# Altium schematic symbol library MCU.SchLib: 15 symbols
Pins are listed as number, name and electrical type; pins without a type are passive.

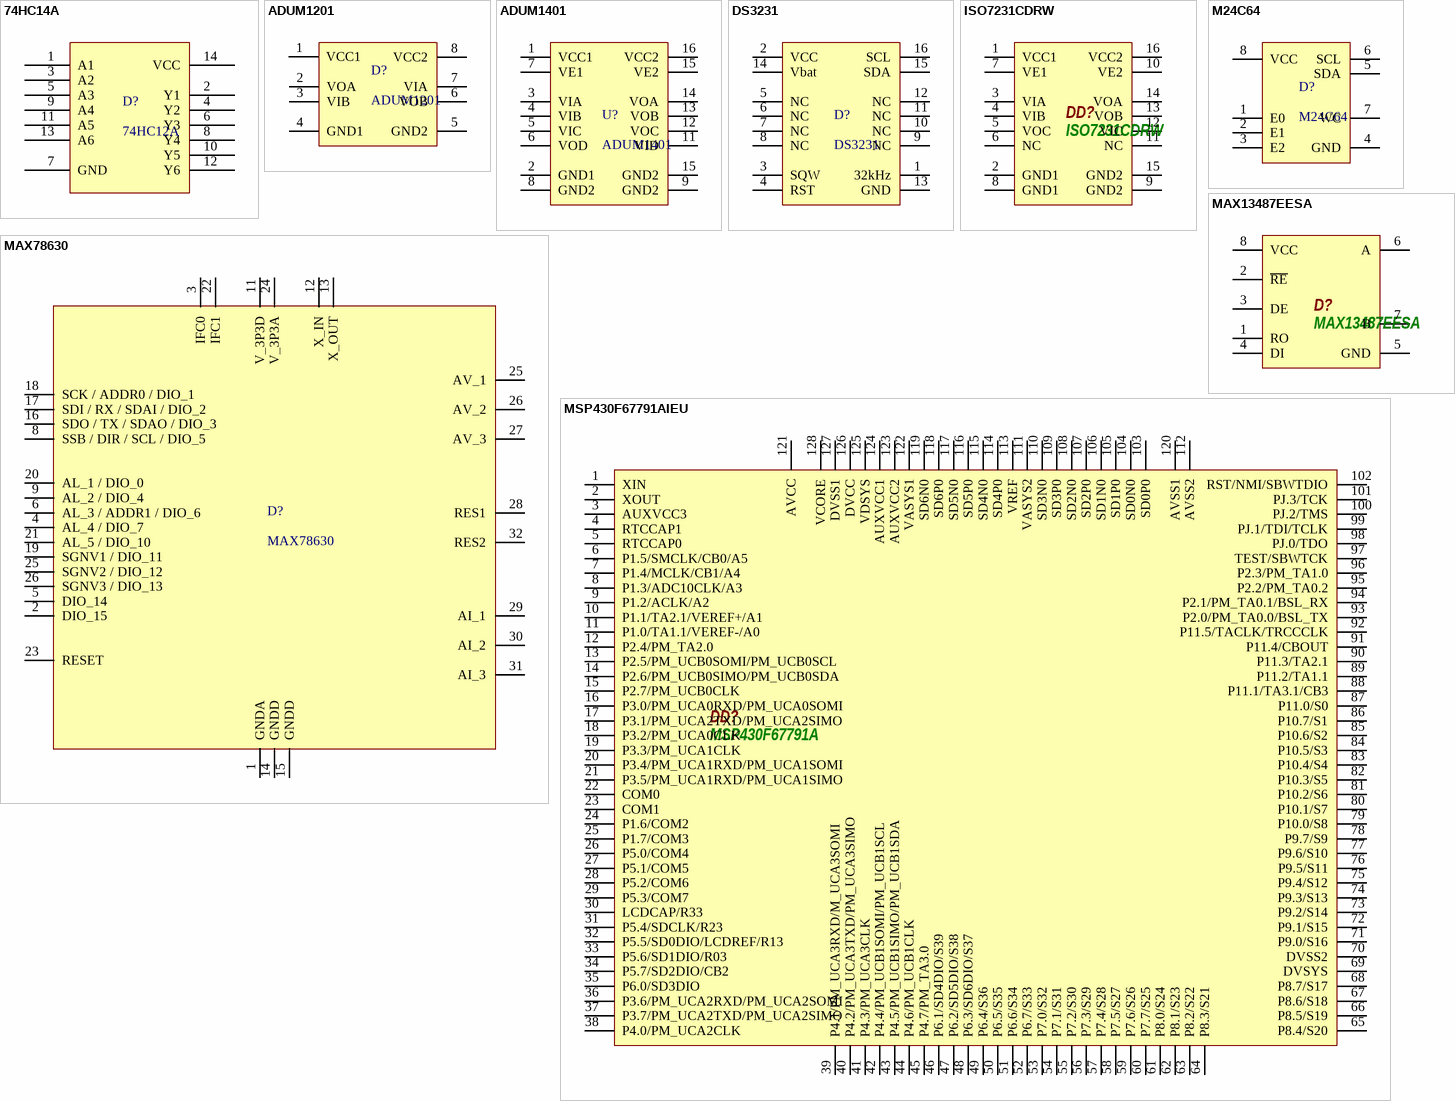
[diagram p0: symbols 74HC14A to MSP430F67791AIEU]

## 74HC14A
designator D?, comment 74HC12A
footprint TSSOP-14 (TSSOP, 14-Leads)
pins: 1 A1 (power), 2 Y1, 3 A2 (power), 4 Y2, 5 A3, 6 Y3, 7 GND, 8 Y4, 9 A4, 10 Y5, 11 A5, 12 Y6, 13 A6, 14 VCC

## ADUM1201
designator D?
ValueManufacturerPartNumber: ADUM1201ARWZ; ValueManufacturer: Analog Devices; ValueType: Микросхема
footprint SOIC-8 / 150mm
pins: 1 VCC1, 2 VOA, 3 VIB, 4 GND1, 5 GND2, 6 VOB, 7 VIA, 8 VCC2

## ADUM1401
designator U?
ValueManufacturerPartNumber: ADUM1401ARWZ; ValueManufacturer: Analog Devices; ValueType: Микросхема
footprint SOIC-16W 3D (SOIC, 16-Leads, Body 10,30x7,50mm, Pitch 1,27mm, IPC Medium Density)
pins: 1 VCC1 (power), 2 GND1, 3 VIA, 4 VIB, 5 VIC, 6 VOD, 7 VE1 (power), 8 GND2, 9 GND2, 11 VID, 12 VOC, 13 VOB, 14 VOA, 15 GND2, 15 VE2, 16 VCC2

## DS3231
designator D?
ValueManufacturer: Dallas Semiconductor; ValueType: Микросхема; ValueManufacturerPartNumber: DS3231
footprint SOIC-16W 3D (SOIC, 16-Leads, Body 10,30x7,50mm, Pitch 1,27mm, IPC Medium Density)
pins: 1 32kHz, 2 VCC (power), 3 SQW, 4 RST, 5 NC, 6 NC, 7 NC, 8 NC, 9 NC, 10 NC, 11 NC, 12 NC, 13 GND, 14 Vbat (power), 15 SDA, 16 SCL

## ISO7231CDRW
designator DD?
ValueManufacturer: Texas Instruments; ValueType: Микросхема; ValueManufacturerPartNumber: ISO7231CDRW
footprint SOIC-16W / 300mm
pins: 1 VCC1 (power), 2 GND1, 3 VIA, 4 VIB, 5 VOC, 6 NC, 7 VE1 (power), 8 GND1, 9 GND2, 10 VE2, 11 NC, 12 VIC, 13 VOB, 14 VOA, 15 GND2, 16 VCC2

## M24C64
designator D?
ValueManufacturerPartNumber: M24C64-RMN6TP; ValueManufacturer: STMicroelectronics; ValueType: Микросхема
footprint SOIC-8 / 150mm
pins: 1 E0, 2 E1, 3 E2, 4 GND, 5 SDA, 6 SCL, 7 WC, 8 VCC

## MAX13487EESA
designator D?
ValueManufacturer: Maxim Intagrated; ValueType: Микросхема; ValueManufacturerPartNumber: MAX13487EESA
pins: 1 RO, 2 ~{RE}, 3 DE, 4 DI, 5 GND, 6 A, 7 B, 8 VCC

## MAX78630
designator D?
ValueManufacturer: Maxim Integrated; ValueManufacturerPartNumber: MAX78630+PPM/D00; ValueType: Микросхема
footprint TQFN-32 (QFN, 32-Leads, Body 5,00x5,00mm, Pitch 0,50mm, Thermal Pad 3,38x3,38mm, IPC Medium Density)
pins: 1 GNDA, 2 DIO_15, 3 IFC0, 4 AL_4 / DIO_7, 5 DIO_14, 6 AL_3 / ADDR1 / DIO_6, 8 SSB / DIR / SCL / DIO_5, 9 AL_2 / DIO_4, 11 V_3P3D, 12 X_IN, 13 X_OUT, 14 GNDD, 15 GNDD, 16 SDO / TX / SDAO / DIO_3, 17 SDI / RX / SDAI / DIO_2, 18 SCK / ADDR0 / DIO_1, 19 SGNV1 / DIO_11, 20 AL_1 / DIO_0, 21 AL_5 / DIO_10, 22 IFC1, 23 RESET, 24 V_3P3A, 25 SGNV2 / DIO_12, 25 AV_1, 26 SGNV3 / DIO_13, 26 AV_2, 27 AV_3, 28 RES1, 29 AI_1, 30 AI_2, 31 AI_3, 32 RES2

## MSP430F67791AIEU
designator DD?, comment MSP430F67791A
ValueManufacturer: Texas Instruments; ValueManufacturerPartNumber: MSP430F67791AIPEUR; ValueType: Микросхема
footprint PQFP-128
pins: 1 XIN, 2 XOUT, 3 AUXVCC3, 4 RTCCAP1, 5 RTCCAP0, 6 P1.5/SMCLK/CB0/A5, 7 P1.4/MCLK/CB1/A4, 8 P1.3/ADC10CLK/A3, 9 P1.2/ACLK/A2, 10 P1.1/TA2.1/VEREF+/A1, 11 P1.0/TA1.1/VEREF-/A0, 12 P2.4/PM_TA2.0, 13 P2.5/PM_UCB0SOMI/PM_UCB0SCL, 14 P2.6/PM_UCB0SIMO/PM_UCB0SDA, 15 P2.7/PM_UCB0CLK, 16 P3.0/PM_UCA0RXD/PM_UCA0SOMI, 17 P3.1/PM_UCA2TXD/PM_UCA2SIMO, 18 P3.2/PM_UCA0CLK, 19 P3.3/PM_UCA1CLK, 20 P3.4/PM_UCA1RXD/PM_UCA1SOMI, 21 P3.5/PM_UCA1RXD/PM_UCA1SIMO, 22 COM0, 23 COM1, 24 P1.6/COM2, 25 P1.7/COM3, 26 P5.0/COM4, 27 P5.1/COM5, 28 P5.2/COM6, 29 P5.3/COM7, 30 LCDCAP/R33, 31 P5.4/SDCLK/R23, 32 P5.5/SD0DIO/LCDREF/R13, 33 P5.6/SD1DIO/R03, 34 P5.7/SD2DIO/CB2, 35 P6.0/SD3DIO, 36 P3.6/PM_UCA2RXD/PM_UCA2SOMI, 37 P3.7/PM_UCA2TXD/PM_UCA2SIMO, 38 P4.0/PM_UCA2CLK, 39 P4.1/PM_UCA3RXD/M_UCA3SOMI, 40 P4.2/PM_UCA3TXD/PM_UCA3SIMO, 41 P4.3/PM_UCA3CLK, 42 P4.4/PM_UCB1SOMI/PM_UCB1SCL, 43 P4.5/PM_UCB1SIMO/PM_UCB1SDA, 44 P4.6/PM_UCB1CLK, 45 P4.7/PM_TA3.0, 46 P6.1/SD4DIO/S39, 47 P6.2/SD5DIO/S38, 48 P6.3/SD6DIO/S37, 49 P6.4/S36, 50 P6.5/S35, 51 P6.6/S34, 52 P6.7/S33, 53 P7.0/S32, 54 P7.1/S31, 55 P7.2/S30, 56 P7.3/S29, 57 P7.4/S28, 58 P7.5/S27, 59 P7.6/S26, 60 P7.7/S25, 61 P8.0/S24, 62 P8.1/S23, 63 P8.2/S22, 64 P8.3/S21, 65 P8.4/S20, 66 P8.5/S19, 67 P8.6/S18, 68 P8.7/S17, 69 DVSYS, 70 DVSS2, 71 P9.0/S16, 72 P9.1/S15, 73 P9.2/S14, 74 P9.3/S13, 75 P9.4/S12, 76 P9.5/S11, 77 P9.6/S10, 78 P9.7/S9, 79 P10.0/S8, 80 P10.1/S7, 81 P10.2/S6, 82 P10.3/S5, 83 P10.4/S4, 84 P10.5/S3, 85 P10.6/S2, 86 P10.7/S1, 87 P11.0/S0, 88 P11.1/TA3.1/CB3, 89 P11.2/TA1.1, 90 P11.3/TA2.1, 91 P11.4/CBOUT, 92 P11.5/TACLK/TRCCCLK, 93 P2.0/PM_TA0.0/BSL_TX, 94 P2.1/PM_TA0.1/BSL_RX, 95 P2.2/PM_TA0.2, 96 P2.3/PM_TA1.0, 97 TEST/SBWTCK, 98 PJ.0/TDO, 99 PJ.1/TDI/TCLK, 100 PJ.2/TMS, 101 PJ.3/TCK, 102 RST/NMI/SBWTDIO, 103 SD0P0, 104 SD0N0, 105 SD1P0, 106 SD1N0, 107 SD2P0, 108 SD2N0, 109 SD3P0, 110 SD3N0, 111 VASYS2, 112 AVSS2, 113 VREF, 114 SD4P0, 115 SD4N0, 116 SD5P0, 117 SD5N0, 118 SD6P0, 119 SD6N0, 120 AVSS1, 121 AVCC, 122 VASYS1, 123 AUXVCC2, 124 AUXVCC1, 125 VDSYS, 126 DVCC, 127 DVSS1, 128 VCORE

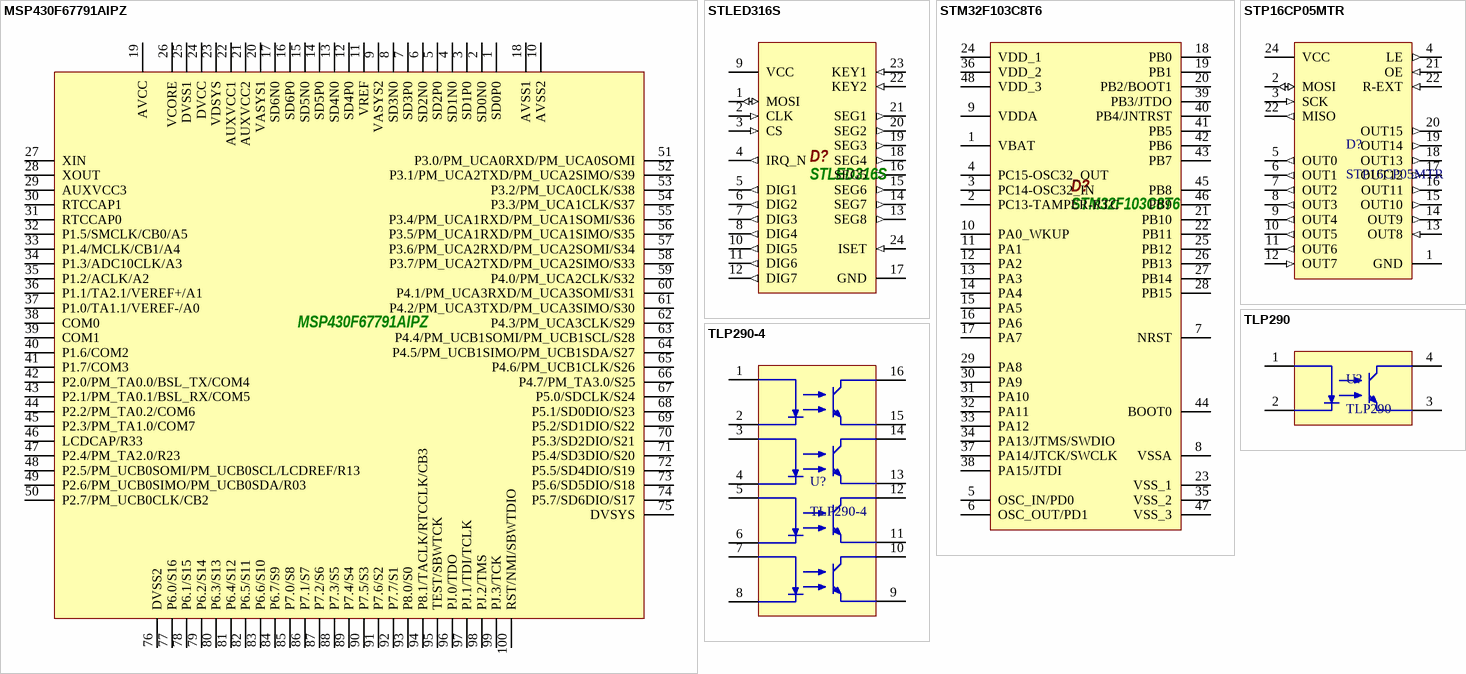
[diagram p1: symbols MSP430F67791AIPZ to TLP290-4]

## MSP430F67791AIPZ
designator ?
ValueManufacturer: Texas Instruments; ValueType: Микросхема; ValueManufacturerPartNumber: MSP430F67791AIPZ
footprint LQFP-100
pins: 1 SD0P0, 2 SD0N0, 3 SD1P0, 4 SD1N0, 5 SD2P0, 6 SD2N0, 7 SD3P0, 8 SD3N0, 9 VASYS2, 10 AVSS2, 11 VREF, 12 SD4P0, 13 SD4N0, 14 SD5P0, 15 SD5N0, 16 SD6P0, 17 SD6N0, 18 AVSS1, 19 AVCC, 20 VASYS1, 21 AUXVCC2, 22 AUXVCC1, 23 VDSYS, 24 DVCC, 25 DVSS1, 26 VCORE, 27 XIN, 28 XOUT, 29 AUXVCC3, 30 RTCCAP1, 31 RTCCAP0, 32 P1.5/SMCLK/CB0/A5, 33 P1.4/MCLK/CB1/A4, 34 P1.3/ADC10CLK/A3, 35 P1.2/ACLK/A2, 36 P1.1/TA2.1/VEREF+/A1, 37 P1.0/TA1.1/VEREF-/A0, 38 COM0, 39 COM1, 40 P1.6/COM2, 41 P1.7/COM3, 42 P2.0/PM_TA0.0/BSL_TX/COM4, 43 P2.1/PM_TA0.1/BSL_RX/COM5, 44 P2.2/PM_TA0.2/COM6, 45 P2.3/PM_TA1.0/COM7, 46 LCDCAP/R33, 47 P2.4/PM_TA2.0/R23, 48 P2.5/PM_UCB0SOMI/PM_UCB0SCL/LCDREF/R13, 49 P2.6/PM_UCB0SIMO/PM_UCB0SDA/R03, 50 P2.7/PM_UCB0CLK/CB2, 51 P3.0/PM_UCA0RXD/PM_UCA0SOMI, 52 P3.1/PM_UCA2TXD/PM_UCA2SIMO/S39, 53 P3.2/PM_UCA0CLK/S38, 54 P3.3/PM_UCA1CLK/S37, 55 P3.4/PM_UCA1RXD/PM_UCA1SOMI/S36, 56 P3.5/PM_UCA1RXD/PM_UCA1SIMO/S35, 57 P3.6/PM_UCA2RXD/PM_UCA2SOMI/S34, 58 P3.7/PM_UCA2TXD/PM_UCA2SIMO/S33, 59 P4.0/PM_UCA2CLK/S32, 60 P4.1/PM_UCA3RXD/M_UCA3SOMI/S31, 61 P4.2/PM_UCA3TXD/PM_UCA3SIMO/S30, 62 P4.3/PM_UCA3CLK/S29, 63 P4.4/PM_UCB1SOMI/PM_UCB1SCL/S28, 64 P4.5/PM_UCB1SIMO/PM_UCB1SDA/S27, 65 P4.6/PM_UCB1CLK/S26, 66 P4.7/PM_TA3.0/S25, 67 P5.0/SDCLK/S24, 68 P5.1/SD0DIO/S23, 69 P5.2/SD1DIO/S22, 70 P5.3/SD2DIO/S21, 71 P5.4/SD3DIO/S20, 72 P5.5/SD4DIO/S19, 73 P5.6/SD5DIO/S18, 74 P5.7/SD6DIO/S17, 75 DVSYS, 76 DVSS2, 77 P6.0/S16, 78 P6.1/S15, 79 P6.2/S14, 80 P6.3/S13, 81 P6.4/S12, 82 P6.5/S11, 83 P6.6/S10, 84 P6.7/S9, 85 P7.0/S8, 86 P7.1/S7, 87 P7.2/S6, 88 P7.3/S5, 89 P7.4/S4, 90 P7.5/S3, 91 P7.6/S2, 92 P7.7/S1, 93 P8.0/S0, 94 P8.1/TACLK/RTCCLK/CB3, 95 TEST/SBWTCK, 96 PJ.0/TDO, 97 PJ.1/TDI/TCLK, 98 PJ.2/TMS, 99 PJ.3/TCK, 100 RST/NMI/SBWTDIO

## STLED316S
designator D?
ValueManufacturer: STMicroelectronics; ValueType: Микросхема; ValueManufacturerPartNumber: STLED316S
footprint SOIC-24W / 300m
pins: 1 MOSI (io), 2 CLK (in), 3 CS (in), 4 IRQ_N (out), 5 DIG1 (out), 6 DIG2 (out), 7 DIG3 (out), 8 DIG4 (out), 9 VCC (power), 10 DIG5 (out), 11 DIG6 (out), 12 DIG7 (out), 13 SEG8 (out), 14 SEG7 (out), 15 SEG6 (out), 16 SEG5 (out), 17 GND (power), 18 SEG4 (out), 19 SEG3 (out), 20 SEG2 (out), 21 SEG1 (out), 22 KEY2 (in), 23 KEY1 (in), 24 ISET (in)

## STM32F103C8T6
designator D?
STM32 ARM-based 32-bit MCU with 64 Kbytes Flash, 48-pin LQFP, Industrial Temperature; ValueManufacturer: STMicroelectronics; ValueType: Микросхема; ValueManufacturerPartNumber: STM32F103C8T6
footprint LQFP48
pins: 1 VBAT, 2 PC13-TAMPER-RTC, 3 PC14-OSC32_IN, 4 PC15-OSC32_OUT, 5 OSC_IN/PD0, 6 OSC_OUT/PD1, 7 NRST, 8 VSSA, 9 VDDA, 10 PA0_WKUP, 11 PA1, 12 PA2, 13 PA3, 14 PA4, 15 PA5, 16 PA6, 17 PA7, 18 PB0, 19 PB1, 20 PB2/BOOT1, 21 PB10, 22 PB11, 23 VSS_1, 24 VDD_1, 25 PB12, 26 PB13, 27 PB14, 28 PB15, 29 PA8, 30 PA9, 31 PA10, 32 PA11, 33 PA12, 34 PA13/JTMS/SWDIO, 35 VSS_2, 36 VDD_2, 37 PA14/JTCK/SWCLK, 38 PA15/JTDI, 39 PB3/JTDO, 40 PB4/JNTRST, 41 PB5, 42 PB6, 43 PB7, 44 BOOT0, 45 PB8, 46 PB9, 47 VSS_3, 48 VDD_3

## STP16CP05MTR
designator D?
ValueManufacturer: STMicroelectronics; ValueType: Микросхема; ValueManufacturerPartNumber: STP16CP05MTR
footprint SOIC-24W / 300m
pins: 1 GND (power), 2 MOSI (io), 3 SCK (in), 4 LE (out), 5 OUT0 (out), 6 OUT1 (out), 7 OUT2 (out), 8 OUT3 (out), 9 OUT4 (out), 10 OUT5 (out), 11 OUT6 (out), 12 OUT7 (in), 13 OUT8 (in), 14 OUT9 (out), 15 OUT10 (out), 16 OUT11 (out), 17 OUT12 (out), 18 OUT13 (out), 19 OUT14 (out), 20 OUT15 (out), 21 OE (in), 22 MISO (out), 22 R-EXT (in), 24 VCC (power)

## TLP290
designator U?
ValueManufacturer: Toshiba; ValueType: Оптопара; ValueManufacturerPartNumber: TLP290
footprint SOIC-4 / 150mm
pins: 1 Anode, 2 Catode, 3 Emitter, 4 Collector

## TLP290-4
designator U?
ValueManufacturer: Toshiba; ValueType: Оптопара; ValueManufacturerPartNumber: TLP290-4
footprint SOIC-16 / 150mm
pins: 1 Anode, 2 Catode, 3 Anode, 4 Catode, 5 Anode, 6 Catode, 7 Anode, 8 Catode, 9 Emitter, 10 Collector, 11 Emitter, 12 Collector, 13 Emitter, 14 Collector, 15 Emitter, 16 Collector